# EAGLE library part MILLI-GRID-22 (library con-molex)
Milli-Grid Pin Header 2.00mm (.079") Pitch
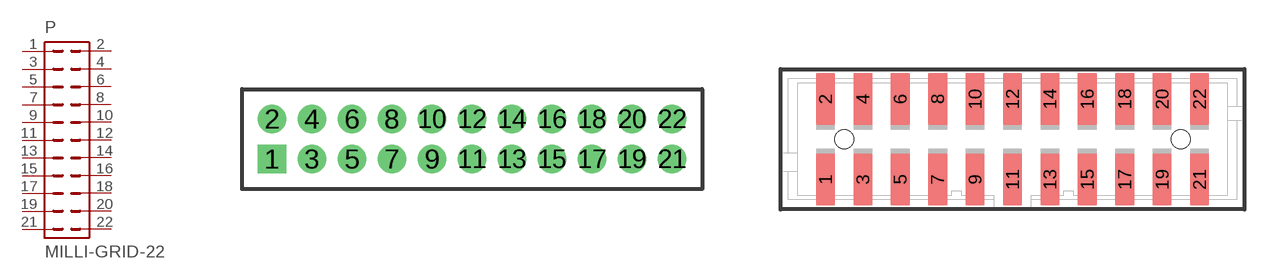
[diagram p59: symbol with the pads of 87758-22; footprints 87758-22, 87832-22]

Designator prefix P

## MILLI-GRID-22-87758  [87758-22]
1  1  pas
2  2  pas
3  3  pas
4  4  pas
5  5  pas
6  6  pas
7  7  pas
8  8  pas
9  9  pas
10  10  pas
11  11  pas
12  12  pas
13  13  pas
14  14  pas
15  15  pas
16  16  pas
17  17  pas
18  18  pas
19  19  pas
20  20  pas
21  21  pas
22  22  pas

## MILLI-GRID-22-87832  [87832-22]
Pads as for 87758-22

## MILLI-GRID-22-87759  [87759-22]
Pads as for 87758-22

## MILLI-GRID-22-79109  [79109-22]
Pads as for 87758-22

## MILLI-GRID-22-79107  [79107-22]
Pads as for 87758-22

## MILLI-GRID-22-87264  [87264-22]
Pads as for 87758-22

## MILLI-GRID-22-87368  [87368-22]
Pads as for 87758-22

## Footprint 87758-22 (pad centres in mm)
PCB Pin Headers 2.00mm (.079") Pitch Milli-Grid Header, Vertical
drill 0.914 square: 1 -10,-1
drill 0.914: 2 -10,1; 3 -8,-1; 4 -8,1; 5 -6,-1; 6 -6,1; 7 -4,-1; 8 -4,1; 9 -2,-1; 10 -2,1; 11 0,-1; 12 0,1; 13 2,-1; 14 2,1; 15 4,-1; 16 4,1; 17 6,-1; 18 6,1; 19 8,-1; 20 8,1; 21 10,-1; 22 10,1

## Footprint 87832-22 (pad centres in mm)
PCB Headers 2.00mm (.079") Pitch Milli-Grid Header, Vertical, Shrouded
smd 1 x 2.75: 1 -10,-2.15; 2 -10,2.15; 3 -8,-2.15; 4 -8,2.15; 5 -6,-2.15; 6 -6,2.15; 7 -4,-2.15; 8 -4,2.15; 9 -2,-2.15; 10 -2,2.15; 11 0,-2.15; 12 0,2.15; 13 2,-2.15; 14 2,2.15; 15 4,-2.15; 16 4,2.15; 17 6,-2.15; 18 6,2.15; 19 8,-2.15; 20 8,2.15; 21 10,-2.15; 22 10,2.15
hole 1 at -9,0
hole 1 at 9,0

## Footprint 87759-22 (pad centres in mm)
PCB Pin Headers 2.00mm (.079") Pitch Milli-Grid Header, Vertical SMD
smd 1 x 2.75: 1 -10,-2.15; 2 -10,2.15; 3 -8,-2.15; 4 -8,2.15; 5 -6,-2.15; 6 -6,2.15; 7 -4,-2.15; 8 -4,2.15; 9 -2,-2.15; 10 -2,2.15; 11 0,-2.15; 12 0,2.15; 13 2,-2.15; 14 2,2.15; 15 4,-2.15; 16 4,2.15; 17 6,-2.15; 18 6,2.15; 19 8,-2.15; 20 8,2.15; 21 10,-2.15; 22 10,2.15
hole 1 at -9,0
hole 1 at 9,0

## Footprint 79109-22 (pad centres in mm)
Board-to-Board Receptacal 2.00mm (.079") Pitch Milli-Grid Header, Vertical, Top/Bottom Entry Mates with: 87758, 87759, 87760, 87831, 87832, 87833
smd 1.12 x 1.83: 1 -10,-2.65; 2 -10,2.65; 3 -8,-2.65; 4 -8,2.65; 5 -6,-2.65; 6 -6,2.65; 7 -4,-2.65; 8 -4,2.65; 9 -2,-2.65; 10 -2,2.65; 11 0,-2.65; 12 0,2.65; 13 2,-2.65; 14 2,2.65; 15 4,-2.65; 16 4,2.65; 17 6,-2.65; 18 6,2.65; 19 8,-2.65; 20 8,2.65; 21 10,-2.65; 22 10,2.65
hole 0.914 at -9,0
hole 0.914 at -10,1
hole 0.914 at -10,-1
hole 0.914 at -8,-1
hole 0.914 at -8,1
hole 0.914 at -6,-1
hole 0.914 at -6,1
hole 0.914 at 9,0
hole 0.914 at -4,1
hole 0.914 at -4,-1
hole 0.914 at -2,1
hole 0.914 at -2,-1
hole 0.914 at 0,1
hole 0.914 at 0,-1
hole 0.914 at 2,1
hole 0.914 at 2,-1
hole 0.914 at 4,-1
hole 0.914 at 4,1
hole 0.914 at 6,1
hole 0.914 at 6,-1
hole 0.914 at 8,1
hole 0.914 at 8,-1
hole 0.914 at 10,1
hole 0.914 at 10,-1

## Footprint 79107-22 (pad centres in mm)
Board-To-Board Receptacal 2.00mm (.079") Pitch Milli-Grid Header, Vertical, Through-Hole Mates with: 87759, 87762, 87758, 87760
drill 0.914 square: 1 -10,-1
drill 0.914: 2 -10,1; 3 -8,-1; 4 -8,1; 5 -6,-1; 6 -6,1; 7 -4,-1; 8 -4,1; 9 -2,-1; 10 -2,1; 11 0,-1; 12 0,1; 13 2,-1; 14 2,1; 15 4,-1; 16 4,1; 17 6,-1; 18 6,1; 19 8,-1; 20 8,1; 21 10,-1; 22 10,1

## Footprint 87264-22 (pad centres in mm)
Board-To-Board Receptacal 2.00mm (.079") Pitch Milli-Grid Header, Side Entry Mates with 2mm(.079") Mill-Grid Header
drill 0.914 square: 1 -10,-2.25
drill 0.914: 2 -10,2.25; 3 -8,-2.25; 4 -8,2.25; 5 -6,-2.25; 6 -6,2.25; 7 -4,-2.25; 8 -4,2.25; 9 -2,-2.25; 10 -2,2.25; 11 0,-2.25; 12 0,2.25; 13 2,-2.25; 14 2,2.25; 15 4,-2.25; 16 4,2.25; 17 6,-2.25; 18 6,2.25; 19 8,-2.25; 20 8,2.25; 21 10,-2.25; 22 10,2.25

## Footprint 87368-22 (pad centres in mm)
Board-To-Board Receptacal 2.00mm (.079") Pitch Milli-Grid Header, Side Entry SMD Mates with 2mm(.079") Mill-Grid Header
smd 1 x 2.8: 1 -10,-3.1; 2 -10,3.1; 3 -8,-3.1; 4 -8,3.1; 5 -6,-3.1; 6 -6,3.1; 7 -4,-3.1; 8 -4,3.1; 9 -2,-3.1; 10 -2,3.1; 11 0,-3.1; 12 0,3.1; 13 2,-3.1; 14 2,3.1; 15 4,-3.1; 16 4,3.1; 17 6,-3.1; 18 6,3.1; 19 8,-3.1; 20 8,3.1; 21 10,-3.1; 22 10,3.1
hole 0.914 at -10,0
hole 0.914 at 0,0